# Altium schematic symbol library CN_1X3.SchLib: 1 symbol
Pins are listed as number, name and electrical type; pins without a type are passive.

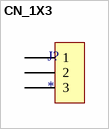
[diagram p0: symbol CN_1X3]

## CN_1X3
designator J?
pins: 1, 2, 3